# Altium schematic symbol library VINYL-Player.SchLib: 14 symbols
Pins are listed as number, name and electrical type; pins without a type are passive.

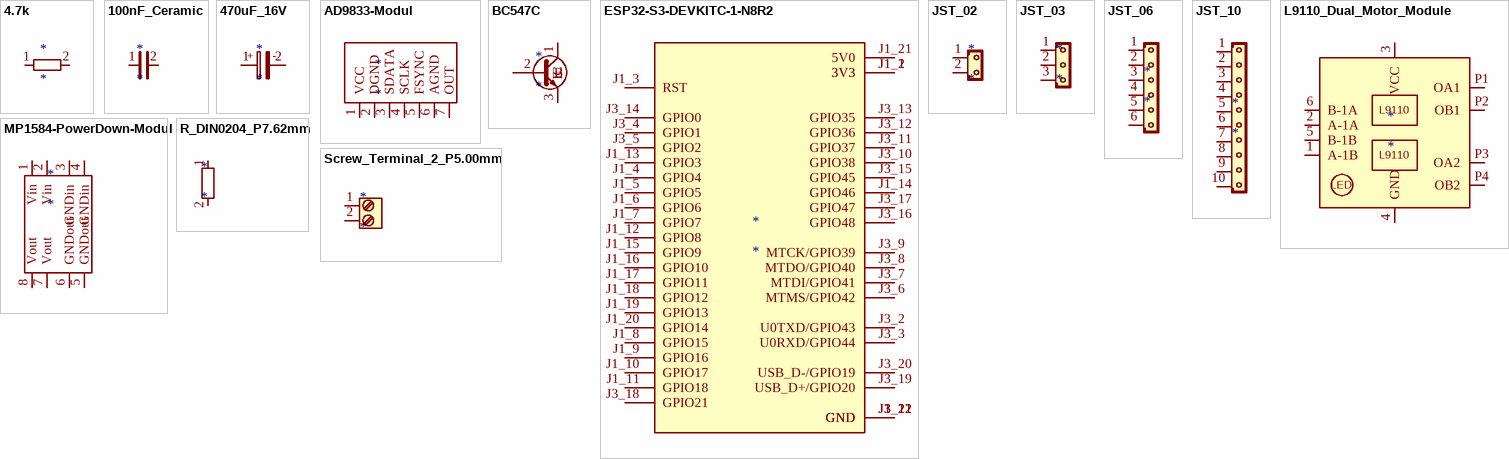
[diagram p0: symbols 4.7k to Screw_Terminal_2_P5.00mm]

## 4.7k
designator *
pins: 1, 2

## 100nF_Ceramic
designator *
pins: 1, 2

## 470uF_16V
designator *
pins: 1, 2
text: +; -

## AD9833-Modul
designator *
pins: 1 VCC, 2 DGND, 3 SDATA, 4 SCLK, 5 FSYNC, 6 AGND, 7 OUT

## BC547C
designator *
pins: 1 C, 2 B, 3 E

## ESP32-S3-DEVKITC-1-N8R2
designator *
pins: J1_1 3V3, J1_2 3V3, J1_3 RST, J1_4 GPIO4, J1_5 GPIO5, J1_6 GPIO6, J1_7 GPIO7, J1_8 GPIO15, J1_9 GPIO16, J1_10 GPIO17, J1_11 GPIO18, J1_12 GPIO8, J1_13 GPIO3, J1_14 GPIO46, J1_15 GPIO9, J1_16 GPIO10, J1_17 GPIO11, J1_18 GPIO12, J1_19 GPIO13, J1_20 GPIO14, J1_21 5V0, J1_22 GND, J3_1 GND, J3_2 U0TXD/GPIO43, J3_3 U0RXD/GPIO44, J3_4 GPIO1, J3_5 GPIO2, J3_6 MTMS/GPIO42, J3_7 MTDI/GPIO41, J3_8 MTDO/GPIO40, J3_9 MTCK/GPIO39, J3_10 GPIO38, J3_11 GPIO37, J3_12 GPIO36, J3_13 GPIO35, J3_14 GPIO0, J3_15 GPIO45, J3_16 GPIO48, J3_17 GPIO47, J3_18 GPIO21, J3_19 USB_D+/GPIO20, J3_20 USB_D-/GPIO19, J3_21 GND, J3_22 GND

## JST_02
designator *
pins: 1, 2

## JST_03
designator *
pins: 1, 2, 3

## JST_06
designator *
pins: 1, 2, 3, 4, 5, 6

## JST_10
designator *
pins: 1, 2, 3, 4, 5, 6, 7, 8, 9, 10

## L9110_Dual_Motor_Module
designator *
pins: 1 A-1B, 2 A-1A, 3 VCC, 4 GND, 5 B-1B, 6 B-1A, P1 OA1, P2 OB1, P3 OA2, P4 OB2
text: L9110; LED

## MP1584-PowerDown-Modul
designator *
pins: 1 Vin, 2 Vin, 3 GNDin, 4 GNDin, 5 GNDout, 6 GNDout, 7 Vout, 8 Vout

## R_DIN0204_P7.62mm
designator *
pins: 1, 2
1 alternate drawing of the same symbol

## Screw_Terminal_2_P5.00mm
designator *
pins: 1, 2